# Altium footprint library PE53116NL.PCBLIB: 3 footprints
Each footprint in its own frame and in the unit in brackets; x right, y up, seen from the top. Pads: shape width x height; smd on the part's side, far side on the other; paste and mask are expansions set on the pad; w line width, h text height; cw(c..) or ccw(c..) is an arc to the next point about the centre after c.
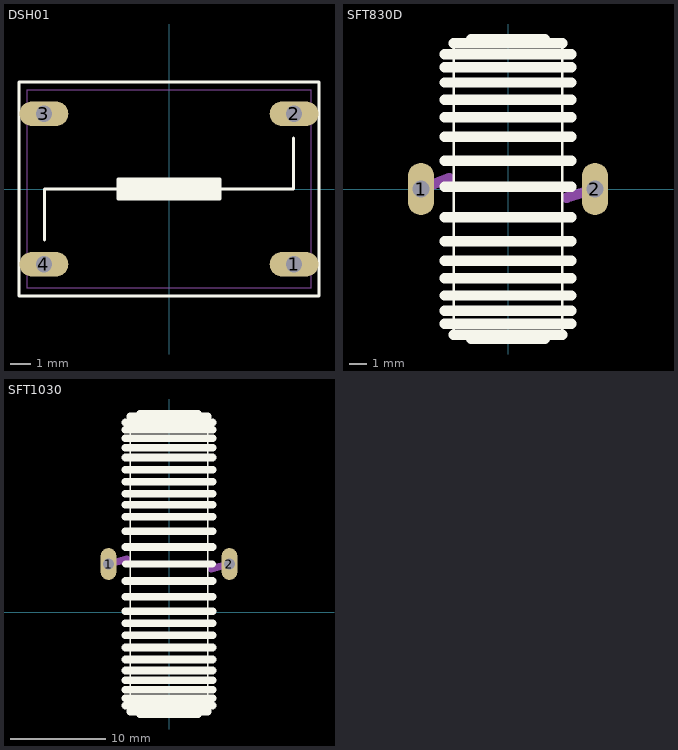
[diagram p0: the footprints below, top view; thin cyan lines are the x and y axes]

## DSH01 [mil]
pads (4):
  oval 96x48 hole 32: 1(246,-148) 2(246,148) 3(-246,148) 4(-246,-148)
Top Overlay:
  rectangle: -100,-20 100,20
  lines w6: -245,-100 -245,0 -100,0 ; 245,100 245,0 100,0 ; -100,0 -100,20 100,20 100,0 ; -100,0 -100,-20 100,-20 100,0 ; -295,-210 295,-210 295,210 -295,210 -295,-210
Mechanical 16:
  lines w2: -280,-195 280,-195 280,195 -280,195 -280,-195

## SFT830D [mil]
pads (2):
  oval 60x120 hole 40: 1(-200,0) 2(200,0)
Top Overlay:
  lines w6: -125,-335 -125,335 ; 125,-335 125,335
  lines w24: -145,-310 145,-310 ; -145,-280 145,-280 ; -145,-245 145,-245 ; -145,-205 145,-205 ; -145,-165 145,-165 ; -145,-120 145,-120 ; -145,-65 145,-65 ; -145,5 145,5 ; -145,65 145,65 ; -145,120 145,120 ; -145,165 145,165 ; -145,205 145,205 ; -145,245 145,245 ; -145,280 145,280 ; -145,310 145,310 ; -125,-335 125,-335 ; -125,335 125,335 ; -85,-345 85,-345 ; -85,345 85,345
Mechanical 16:
  lines w24: -200,0 -135,25 ; 135,-20 200,0

## SFT1030 [mil]
pads (2):
  oval 66x132 hole 44: 1(-250,200) 2(250,200)
Top Overlay:
  lines w6: -160,-410 -160,810 ; 160,-410 160,810
  lines w30: -180,200 180,200
  lines w32: -180,-385 180,-385 ; -180,-355 180,-355 ; -180,-320 180,-320 ; -180,-280 180,-280 ; -180,-240 180,-240 ; -180,-195 180,-195 ; -180,-145 180,-145 ; -180,-95 180,-95 ; -180,-45 180,-45 ; -180,5 180,5 ; -180,65 180,65 ; -180,130 180,130 ; -180,270 180,270 ; -180,335 180,335 ; -180,395 180,395 ; -180,445 180,445 ; -180,490 180,490 ; -180,540 180,540 ; -180,590 180,590 ; -180,640 180,640 ; -180,680 180,680 ; -180,720 180,720 ; -180,755 180,755 ; -180,785 180,785 ; -160,-410 160,-410 ; -160,810 160,810 ; -120,-420 120,-420 ; -120,820 120,820
Mechanical 16:
  lines w32: -250,200 -175,220 ; 175,180 250,200